# EAGLE library part 74LVC1G3208DBVRE4 (library texas-instruments.2)
http://www.ti.com/lit/ds/symlink/sn74lvc1g3208.pdf
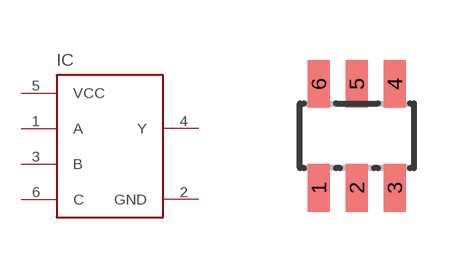
[diagram p5: symbol with the pads of SOT23-DBV; footprint SOT23-DBV]

Designator prefix IC

## 74LVC1G3208DBVRE4  [SOT23-DBV]
1  A
2  GND
3  B
4  Y
5  VCC
6  C

## Footprint SOT23-DBV (pad centres in mm)
Small Outline Transistor DBV (R-PDSO-G5) Source: http://focus.ti.com/lit/ds/symlink/tps77001.pdf
smd 0.55 x 1.2: 1 -0.95,-1.3; 2 0,-1.3; 3 0.95,-1.3; 4 0.95,1.3; 5 0,1.3; 6 -0.95,1.3